# Altium schematic symbol library 1751251.SchLib: 1 symbol
Pins are listed as number, name and electrical type; pins without a type are passive.

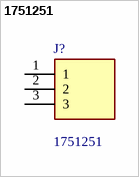
[diagram p0: symbol 1751251]

## 1751251
designator J?
Fixed Terminal Blocks 3P 3.5mm 90DEG; Manufacturer_Name: Phoenix Contact; Geometry.Height: 8.65mm; Manufacturer_Part_Number: 1751251; Mouser Part Number: 651-1751251; Mouser Price/Stock: https://www.mouser.co.uk/ProductDetail/Phoenix-Contact/1751251?qs=wdlOgCqRo4w4Go2awGHrzA%3D%3D; Arrow Part Number: 1751251; Arrow Price/Stock: https://www.arrow.com/en/products/1751251/phoenix-contact?utm_currency=USD&region=nac; Datasheet Link: https://datasheet.datasheetarchive.com/originals/distributors/SFDatasheet-2/sf-00051378.pdf
footprint 1751251
pins: 1, 2, 3